# Altium schematic symbol library Socket 11.SchLib: 1 symbol
Pins are listed as number, name and electrical type; pins without a type are passive.

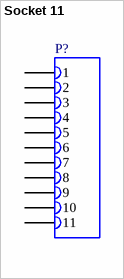
[diagram p0: symbol Socket 11]

## Socket 11
designator P?
Socket (Female header), 11-Pin
pins: 1, 2, 3, 4, 5, 6, 7, 8, 9, 10, 11